# EAGLE library part LCD-16X02 (library - Jins eagle lbr)
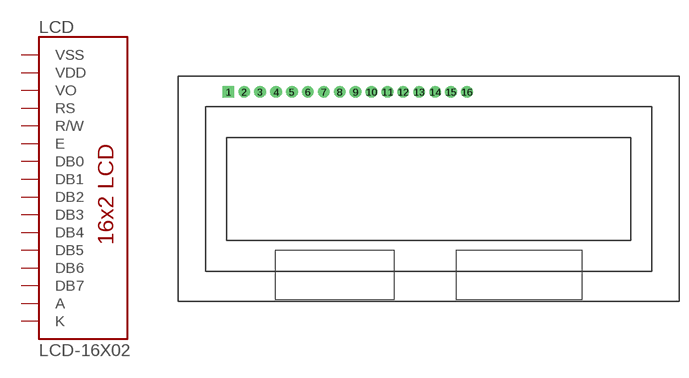
[diagram p4: symbol with the pads of LCD-1602; footprint LCD-1602]

Designator prefix LCD

## LCD-16X02LCD  [LCD-1602]
1  VSS  pwr
2  VDD  pwr
3  VO
4  RS  in
5  R/W  in
6  E  in
7  DB0
8  DB1
9  DB2
10  DB3
11  DB4
12  DB5
13  DB6
14  DB7
15  A  pwr
16  K  pwr

## Footprint LCD-1602 (pad centres in mm)
drill 1.016 pad 1.88 square: 1 -29.46,14.23
drill 1.016 pad 1.88: 2 -26.92,14.23; 3 -24.38,14.23; 4 -21.84,14.23; 5 -19.3,14.23; 6 -16.76,14.23; 7 -14.22,14.23; 8 -11.68,14.23; 9 -9.14,14.23; 10 -6.6,14.23; 11 -4.06,14.23; 12 -1.52,14.23; 13 1.02,14.23; 14 3.56,14.23; 15 6.1,14.23; 16 8.64,14.23